# EAGLE library part 750342585 (library wurth_electronics_midcom_inc_v2-1)
Package Style: ETD29 Mounting: THT Pins: 14 pins Bobbin: 070-4772 Best pinouts for production vary per application. Please contact Wurth Electronics Midcom, Inc. for assistance with your custom design. Website: Wurth Electronics Midcom <http://www.we-online.com/midcom> Contact us Wurth Electronics Midcom, Inc. 121 Airport Dr. Watertown, SD 57201 Phone: (605) 886-4385 Fax: (605) 886-4486 E-Mail: midcom@we-online.com
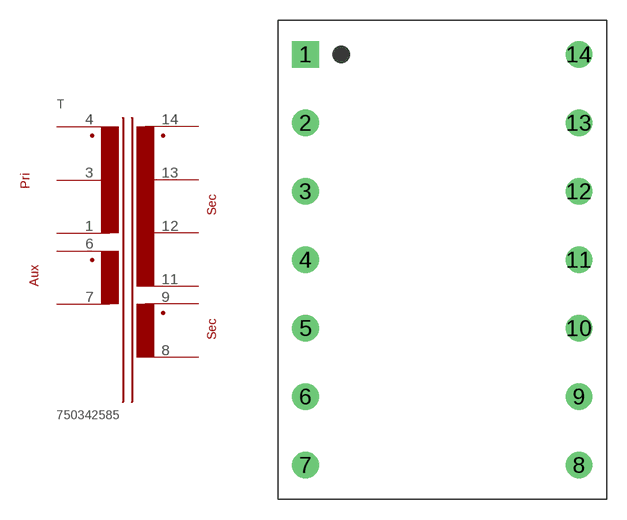
[diagram p97: symbol with the pads of ETD29_THT_V_14PIN_(4772); footprint ETD29_THT_V_14PIN_(4772)]

Designator prefix T

## 750342585  [ETD29_THT_V_14PIN_(4772)]
1  1  pas
3  3  pas
4  4  pas
6  6  pas
7  7  pas
8  8  pas
9  9  pas
11  11  pas
12  12  pas
13  13  pas
14  14  pas

## Footprint ETD29_THT_V_14PIN_(4772) (pad centres in mm)
Package Style: ETD29 Mounting: THT Pins: 14 Bobbin: 070-4772
drill 1.321 square: 1 -10.147,15.24
drill 1.321: 2 -10.147,10.16; 3 -10.147,5.08; 4 -10.147,0; 5 -10.147,-5.08; 6 -10.147,-10.16; 7 -10.147,-15.24; 8 10.147,-15.24; 9 10.147,-10.16; 10 10.147,-5.08; 11 10.147,0; 12 10.147,5.08; 13 10.147,10.16; 14 10.147,15.24